# Altium footprint library Connector_PinSocket_1.00mm.PcbLib: 156 footprints (part 8 of 10)
Each footprint in its own frame and in the unit in brackets; x right, y up, seen from the top. Pads: shape width x height; smd on the part's side, far side on the other; paste and mask are expansions set on the pad; w line width, h text height; cw(c..) or ccw(c..) is an arc to the next point about the centre after c.
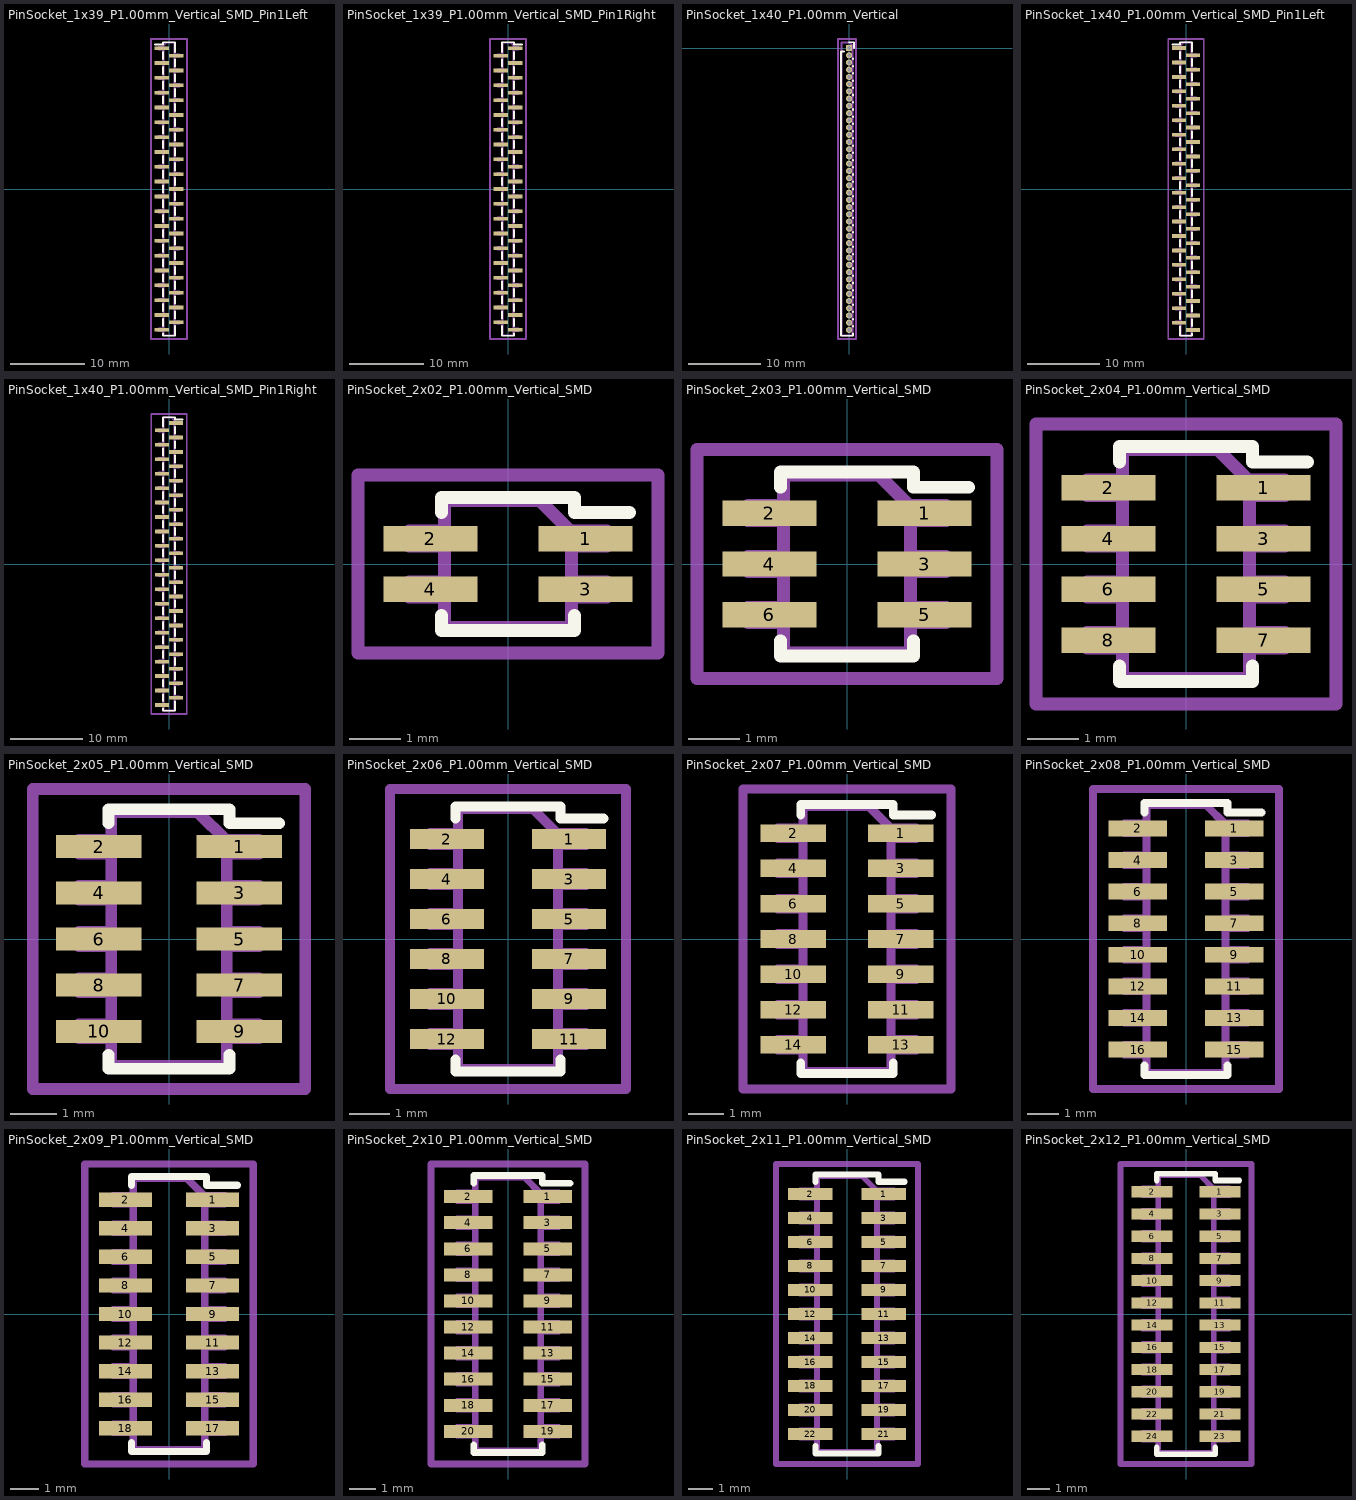
[diagram p7: the footprints below, top view; thin cyan lines are the x and y axes]

## PinSocket_1x39_P1.00mm_Vertical_SMD_Pin1Left [mm]
pads (39):
  rect 1.95x0.5 smd: 1(-0.975,19) 2(0.975,18) 3(-0.975,17) 4(0.975,16) 5(-0.975,15) 6(0.975,14) 7(-0.975,13) 8(0.975,12) 9(-0.975,11) 10(0.975,10) 11(-0.975,9) 12(0.975,8) 13(-0.975,7) 14(0.975,6) 15(-0.975,5) 16(0.975,4) 17(-0.975,3) 18(0.975,2) 19(-0.975,1) 20(0.975,0) 21(-0.975,-1) 22(0.975,-2) 23(-0.975,-3) 24(0.975,-4) 25(-0.975,-5) 26(0.975,-6) 27(-0.975,-7) 28(0.975,-8) 29(-0.975,-9) 30(0.975,-10) 31(-0.975,-11) 32(0.975,-12) 33(-0.975,-13) 34(0.975,-14) 35(-0.975,-15) 36(0.975,-16) 37(-0.975,-17) 38(0.975,-18) 39(-0.975,-19)
F.SilkS:
  lines w0.254: -1.89,19.51 -0.81,19.51 -0.81,19.81 0.81,19.81 0.81,18.51 ; -0.81,-19.51 -0.81,-19.81 0.81,-19.81 0.81,-18.51 ; -0.81,-18.49 -0.81,-17.51 ; -0.81,-16.49 -0.81,-15.51 ; -0.81,-14.49 -0.81,-13.51 ; -0.81,-12.49 -0.81,-11.51 ; -0.81,-10.49 -0.81,-9.51 ; -0.81,-8.49 -0.81,-7.51 ; -0.81,-6.49 -0.81,-5.51 ; -0.81,-4.49 -0.81,-3.51 ; -0.81,-2.49 -0.81,-1.51 ; -0.81,-0.49 -0.81,0.49 ; -0.81,1.51 -0.81,2.49 ; -0.81,3.51 -0.81,4.49 ; -0.81,5.51 -0.81,6.49 ; -0.81,7.51 -0.81,8.49 ; -0.81,9.51 -0.81,10.49 ; -0.81,11.51 -0.81,12.49 ; -0.81,13.51 -0.81,14.49 ; -0.81,15.51 -0.81,16.49 ; -0.81,17.51 -0.81,18.49 ; 0.81,-17.49 0.81,-16.51 ; 0.81,-15.49 0.81,-14.51 ; 0.81,-13.49 0.81,-12.51 ; 0.81,-11.49 0.81,-10.51 ; 0.81,-9.49 0.81,-8.51 ; 0.81,-7.49 0.81,-6.51 ; 0.81,-5.49 0.81,-4.51 ; 0.81,-3.49 0.81,-2.51 ; 0.81,-1.49 0.81,-0.51 ; 0.81,0.51 0.81,1.49 ; 0.81,2.51 0.81,3.49 ; 0.81,4.51 0.81,5.49 ; 0.81,6.51 0.81,7.49 ; 0.81,8.51 0.81,9.49 ; 0.81,10.51 0.81,11.49 ; 0.81,12.51 0.81,13.49 ; 0.81,14.51 0.81,15.49 ; 0.81,16.51 0.81,17.49
Top Assembly:
  lines w0.254: -0.75,-19.15 -1.45,-19.15 -1.45,-18.85 -0.75,-18.85 ; -0.75,-17.15 -1.45,-17.15 -1.45,-16.85 -0.75,-16.85 ; -0.75,-15.15 -1.45,-15.15 -1.45,-14.85 -0.75,-14.85 ; -0.75,-13.15 -1.45,-13.15 -1.45,-12.85 -0.75,-12.85 ; -0.75,-11.15 -1.45,-11.15 -1.45,-10.85 -0.75,-10.85 ; -0.75,-9.15 -1.45,-9.15 -1.45,-8.85 -0.75,-8.85 ; -0.75,-7.15 -1.45,-7.15 -1.45,-6.85 -0.75,-6.85 ; -0.75,-5.15 -1.45,-5.15 -1.45,-4.85 -0.75,-4.85 ; -0.75,-3.15 -1.45,-3.15 -1.45,-2.85 -0.75,-2.85 ; -0.75,-1.15 -1.45,-1.15 -1.45,-0.85 -0.75,-0.85 ; -0.75,0.85 -1.45,0.85 -1.45,1.15 -0.75,1.15 ; -0.75,2.85 -1.45,2.85 -1.45,3.15 -0.75,3.15 ; -0.75,4.85 -1.45,4.85 -1.45,5.15 -0.75,5.15 ; -0.75,6.85 -1.45,6.85 -1.45,7.15 -0.75,7.15 ; -0.75,8.85 -1.45,8.85 -1.45,9.15 -0.75,9.15 ; -0.75,10.85 -1.45,10.85 -1.45,11.15 -0.75,11.15 ; -0.75,12.85 -1.45,12.85 -1.45,13.15 -0.75,13.15 ; -0.75,14.85 -1.45,14.85 -1.45,15.15 -0.75,15.15 ; -0.75,16.85 -1.45,16.85 -1.45,17.15 -0.75,17.15 ; -0.75,18.85 -1.45,18.85 -1.45,19.15 -0.75,19.15 ; 0.75,-18.15 1.45,-18.15 1.45,-17.85 0.75,-17.85 ; 0.75,-16.15 1.45,-16.15 1.45,-15.85 0.75,-15.85 ; 0.75,-14.15 1.45,-14.15 1.45,-13.85 0.75,-13.85 ; 0.75,-12.15 1.45,-12.15 1.45,-11.85 0.75,-11.85 ; 0.75,-10.15 1.45,-10.15 1.45,-9.85 0.75,-9.85 ; 0.75,-8.15 1.45,-8.15 1.45,-7.85 0.75,-7.85 ; 0.75,-6.15 1.45,-6.15 1.45,-5.85 0.75,-5.85 ; 0.75,-4.15 1.45,-4.15 1.45,-3.85 0.75,-3.85 ; 0.75,-2.15 1.45,-2.15 1.45,-1.85 0.75,-1.85 ; 0.75,-0.15 1.45,-0.15 1.45,0.15 0.75,0.15 ; 0.75,1.85 1.45,1.85 1.45,2.15 0.75,2.15 ; 0.75,3.85 1.45,3.85 1.45,4.15 0.75,4.15 ; 0.75,5.85 1.45,5.85 1.45,6.15 0.75,6.15 ; 0.75,7.85 1.45,7.85 1.45,8.15 0.75,8.15 ; 0.75,9.85 1.45,9.85 1.45,10.15 0.75,10.15 ; 0.75,11.85 1.45,11.85 1.45,12.15 0.75,12.15 ; 0.75,13.85 1.45,13.85 1.45,14.15 0.75,14.15 ; 0.75,15.85 1.45,15.85 1.45,16.15 0.75,16.15 ; 0.75,17.85 1.45,17.85 1.45,18.15 0.75,18.15 ; -0.75,-19.75 0.75,-19.75 0.75,19.75 -0.375,19.75 -0.75,19.375 -0.75,-19.75
  text "'.Designator'" at 0.761,-3.647 h0.9
Top Courtyard:
  lines w0.254: -2.45,-20.25 2.45,-20.25 2.45,20.25 -2.45,20.25 -2.45,-20.25
Top Designator:
  text ".Designator" at -7.618,-0.508 h1.52

## PinSocket_1x39_P1.00mm_Vertical_SMD_Pin1Right [mm]
pads (39):
  rect 1.95x0.5 smd: 1(0.975,19) 2(-0.975,18) 3(0.975,17) 4(-0.975,16) 5(0.975,15) 6(-0.975,14) 7(0.975,13) 8(-0.975,12) 9(0.975,11) 10(-0.975,10) 11(0.975,9) 12(-0.975,8) 13(0.975,7) 14(-0.975,6) 15(0.975,5) 16(-0.975,4) 17(0.975,3) 18(-0.975,2) 19(0.975,1) 20(-0.975,0) 21(0.975,-1) 22(-0.975,-2) 23(0.975,-3) 24(-0.975,-4) 25(0.975,-5) 26(-0.975,-6) 27(0.975,-7) 28(-0.975,-8) 29(0.975,-9) 30(-0.975,-10) 31(0.975,-11) 32(-0.975,-12) 33(0.975,-13) 34(-0.975,-14) 35(0.975,-15) 36(-0.975,-16) 37(0.975,-17) 38(-0.975,-18) 39(0.975,-19)
F.SilkS:
  lines w0.254: -0.81,-18.51 -0.81,-19.81 0.81,-19.81 0.81,-19.51 ; -0.81,-17.49 -0.81,-16.51 ; -0.81,-15.49 -0.81,-14.51 ; -0.81,-13.49 -0.81,-12.51 ; -0.81,-11.49 -0.81,-10.51 ; -0.81,-9.49 -0.81,-8.51 ; -0.81,-7.49 -0.81,-6.51 ; -0.81,-5.49 -0.81,-4.51 ; -0.81,-3.49 -0.81,-2.51 ; -0.81,-1.49 -0.81,-0.51 ; -0.81,0.51 -0.81,1.49 ; -0.81,2.51 -0.81,3.49 ; -0.81,4.51 -0.81,5.49 ; -0.81,6.51 -0.81,7.49 ; -0.81,8.51 -0.81,9.49 ; -0.81,10.51 -0.81,11.49 ; -0.81,12.51 -0.81,13.49 ; -0.81,14.51 -0.81,15.49 ; -0.81,16.51 -0.81,17.49 ; -0.81,18.51 -0.81,19.81 0.81,19.81 0.81,19.51 1.89,19.51 ; 0.81,-18.49 0.81,-17.51 ; 0.81,-16.49 0.81,-15.51 ; 0.81,-14.49 0.81,-13.51 ; 0.81,-12.49 0.81,-11.51 ; 0.81,-10.49 0.81,-9.51 ; 0.81,-8.49 0.81,-7.51 ; 0.81,-6.49 0.81,-5.51 ; 0.81,-4.49 0.81,-3.51 ; 0.81,-2.49 0.81,-1.51 ; 0.81,-0.49 0.81,0.49 ; 0.81,1.51 0.81,2.49 ; 0.81,3.51 0.81,4.49 ; 0.81,5.51 0.81,6.49 ; 0.81,7.51 0.81,8.49 ; 0.81,9.51 0.81,10.49 ; 0.81,11.51 0.81,12.49 ; 0.81,13.51 0.81,14.49 ; 0.81,15.51 0.81,16.49 ; 0.81,17.51 0.81,18.49
Top Assembly:
  lines w0.254: -0.75,-18.15 -1.45,-18.15 -1.45,-17.85 -0.75,-17.85 ; -0.75,-16.15 -1.45,-16.15 -1.45,-15.85 -0.75,-15.85 ; -0.75,-14.15 -1.45,-14.15 -1.45,-13.85 -0.75,-13.85 ; -0.75,-12.15 -1.45,-12.15 -1.45,-11.85 -0.75,-11.85 ; -0.75,-10.15 -1.45,-10.15 -1.45,-9.85 -0.75,-9.85 ; -0.75,-8.15 -1.45,-8.15 -1.45,-7.85 -0.75,-7.85 ; -0.75,-6.15 -1.45,-6.15 -1.45,-5.85 -0.75,-5.85 ; -0.75,-4.15 -1.45,-4.15 -1.45,-3.85 -0.75,-3.85 ; -0.75,-2.15 -1.45,-2.15 -1.45,-1.85 -0.75,-1.85 ; -0.75,-0.15 -1.45,-0.15 -1.45,0.15 -0.75,0.15 ; -0.75,1.85 -1.45,1.85 -1.45,2.15 -0.75,2.15 ; -0.75,3.85 -1.45,3.85 -1.45,4.15 -0.75,4.15 ; -0.75,5.85 -1.45,5.85 -1.45,6.15 -0.75,6.15 ; -0.75,7.85 -1.45,7.85 -1.45,8.15 -0.75,8.15 ; -0.75,9.85 -1.45,9.85 -1.45,10.15 -0.75,10.15 ; -0.75,11.85 -1.45,11.85 -1.45,12.15 -0.75,12.15 ; -0.75,13.85 -1.45,13.85 -1.45,14.15 -0.75,14.15 ; -0.75,15.85 -1.45,15.85 -1.45,16.15 -0.75,16.15 ; -0.75,17.85 -1.45,17.85 -1.45,18.15 -0.75,18.15 ; 0.75,-19.15 1.45,-19.15 1.45,-18.85 0.75,-18.85 ; 0.75,-17.15 1.45,-17.15 1.45,-16.85 0.75,-16.85 ; 0.75,-15.15 1.45,-15.15 1.45,-14.85 0.75,-14.85 ; 0.75,-13.15 1.45,-13.15 1.45,-12.85 0.75,-12.85 ; 0.75,-11.15 1.45,-11.15 1.45,-10.85 0.75,-10.85 ; 0.75,-9.15 1.45,-9.15 1.45,-8.85 0.75,-8.85 ; 0.75,-7.15 1.45,-7.15 1.45,-6.85 0.75,-6.85 ; 0.75,-5.15 1.45,-5.15 1.45,-4.85 0.75,-4.85 ; 0.75,-3.15 1.45,-3.15 1.45,-2.85 0.75,-2.85 ; 0.75,-1.15 1.45,-1.15 1.45,-0.85 0.75,-0.85 ; 0.75,0.85 1.45,0.85 1.45,1.15 0.75,1.15 ; 0.75,2.85 1.45,2.85 1.45,3.15 0.75,3.15 ; 0.75,4.85 1.45,4.85 1.45,5.15 0.75,5.15 ; 0.75,6.85 1.45,6.85 1.45,7.15 0.75,7.15 ; 0.75,8.85 1.45,8.85 1.45,9.15 0.75,9.15 ; 0.75,10.85 1.45,10.85 1.45,11.15 0.75,11.15 ; 0.75,12.85 1.45,12.85 1.45,13.15 0.75,13.15 ; 0.75,14.85 1.45,14.85 1.45,15.15 0.75,15.15 ; 0.75,16.85 1.45,16.85 1.45,17.15 0.75,17.15 ; 0.75,18.85 1.45,18.85 1.45,19.15 0.75,19.15 ; -0.75,-19.75 0.75,-19.75 0.75,19.375 0.375,19.75 -0.75,19.75 -0.75,-19.75
  text "'.Designator'" at 0.761,-3.647 h0.9
Top Courtyard:
  lines w0.254: -2.45,-20.25 2.45,-20.25 2.45,20.25 -2.45,20.25 -2.45,-20.25
Top Designator:
  text ".Designator" at -7.618,-0.508 h1.52

## PinSocket_1x40_P1.00mm_Vertical [mm]
pads (40):
  rect 0.85x0.85 hole 0.5: 1(0,0)
  round 0.85 hole 0.5: 2(0,-1) 3(0,-2) 4(0,-3) 5(0,-4) 6(0,-5) 7(0,-6) 8(0,-7) 9(0,-8) 10(0,-9) 11(0,-10) 12(0,-11) 13(0,-12) 14(0,-13) 15(0,-14) 16(0,-15) 17(0,-16) 18(0,-17) 19(0,-18) 20(0,-19) 21(0,-20) 22(0,-21) 23(0,-22) 24(0,-23) 25(0,-24) 26(0,-25) 27(0,-26) 28(0,-27) 29(0,-28) 30(0,-29) 31(0,-30) 32(0,-31) 33(0,-32) 34(0,-33) 35(0,-34) 36(0,-35) 37(0,-36) 38(0,-37) 39(0,-38) 40(0,-39)
F.SilkS:
  lines w0.254: -0.685,-0.5 -1.1,-0.5 -1.1,-39.81 0.52,-39.81 0.52,-39.446 ; 0,0.81 0.685,0.81 0.685,0 ; 0.52,-38.554 0.52,-38.446 ; 0.52,-37.554 0.52,-37.446 ; 0.52,-36.554 0.52,-36.446 ; 0.52,-35.554 0.52,-35.446 ; 0.52,-34.554 0.52,-34.446 ; 0.52,-33.554 0.52,-33.446 ; 0.52,-32.554 0.52,-32.446 ; 0.52,-31.554 0.52,-31.446 ; 0.52,-30.554 0.52,-30.446 ; 0.52,-29.554 0.52,-29.446 ; 0.52,-28.554 0.52,-28.446 ; 0.52,-27.554 0.52,-27.446 ; 0.52,-26.554 0.52,-26.446 ; 0.52,-25.554 0.52,-25.446 ; 0.52,-24.554 0.52,-24.446 ; 0.52,-23.554 0.52,-23.446 ; 0.52,-22.554 0.52,-22.446 ; 0.52,-21.554 0.52,-21.446 ; 0.52,-20.554 0.52,-20.446 ; 0.52,-19.554 0.52,-19.446 ; 0.52,-18.554 0.52,-18.446 ; 0.52,-17.554 0.52,-17.446 ; 0.52,-16.554 0.52,-16.446 ; 0.52,-15.554 0.52,-15.446 ; 0.52,-14.554 0.52,-14.446 ; 0.52,-13.554 0.52,-13.446 ; 0.52,-12.554 0.52,-12.446 ; 0.52,-11.554 0.52,-11.446 ; 0.52,-10.554 0.52,-10.446 ; 0.52,-9.554 0.52,-9.446 ; 0.52,-8.554 0.52,-8.446 ; 0.52,-7.554 0.52,-7.446 ; 0.52,-6.554 0.52,-6.446 ; 0.52,-5.554 0.52,-5.446 ; 0.52,-4.554 0.52,-4.446 ; 0.52,-3.554 0.52,-3.446 ; 0.52,-2.554 0.52,-2.446 ; 0.52,-1.554 0.52,-1.446
Top Assembly:
  lines w0.254: -1.04,-39.75 0.46,-39.75 0.46,0.375 0.085,0.75 -1.04,0.75 -1.04,-39.75
  text "'.Designator'" at 0.471,-23.147 h0.9
Top Courtyard:
  lines w0.254: -1.54,-40.25 0.96,-40.25 0.96,1.25 -1.54,1.25 -1.54,-40.25
Top Designator:
  text ".Designator" at -7.908,-20.008 h1.52

## PinSocket_1x40_P1.00mm_Vertical_SMD_Pin1Left [mm]
pads (40):
  rect 1.95x0.5 smd: 1(-0.975,19.5) 2(0.975,18.5) 3(-0.975,17.5) 4(0.975,16.5) 5(-0.975,15.5) 6(0.975,14.5) 7(-0.975,13.5) 8(0.975,12.5) 9(-0.975,11.5) 10(0.975,10.5) 11(-0.975,9.5) 12(0.975,8.5) 13(-0.975,7.5) 14(0.975,6.5) 15(-0.975,5.5) 16(0.975,4.5) 17(-0.975,3.5) 18(0.975,2.5) 19(-0.975,1.5) 20(0.975,0.5) 21(-0.975,-0.5) 22(0.975,-1.5) 23(-0.975,-2.5) 24(0.975,-3.5) 25(-0.975,-4.5) 26(0.975,-5.5) 27(-0.975,-6.5) 28(0.975,-7.5) 29(-0.975,-8.5) 30(0.975,-9.5) 31(-0.975,-10.5) 32(0.975,-11.5) 33(-0.975,-12.5) 34(0.975,-13.5) 35(-0.975,-14.5) 36(0.975,-15.5) 37(-0.975,-16.5) 38(0.975,-17.5) 39(-0.975,-18.5) 40(0.975,-19.5)
F.SilkS:
  lines w0.254: -1.89,20.01 -0.81,20.01 -0.81,20.31 0.81,20.31 0.81,19.01 ; -0.81,-19.01 -0.81,-20.31 0.81,-20.31 0.81,-20.01 ; -0.81,-17.99 -0.81,-17.01 ; -0.81,-15.99 -0.81,-15.01 ; -0.81,-13.99 -0.81,-13.01 ; -0.81,-11.99 -0.81,-11.01 ; -0.81,-9.99 -0.81,-9.01 ; -0.81,-7.99 -0.81,-7.01 ; -0.81,-5.99 -0.81,-5.01 ; -0.81,-3.99 -0.81,-3.01 ; -0.81,-1.99 -0.81,-1.01 ; -0.81,0.01 -0.81,0.99 ; -0.81,2.01 -0.81,2.99 ; -0.81,4.01 -0.81,4.99 ; -0.81,6.01 -0.81,6.99 ; -0.81,8.01 -0.81,8.99 ; -0.81,10.01 -0.81,10.99 ; -0.81,12.01 -0.81,12.99 ; -0.81,14.01 -0.81,14.99 ; -0.81,16.01 -0.81,16.99 ; -0.81,18.01 -0.81,18.99 ; 0.81,-18.99 0.81,-18.01 ; 0.81,-16.99 0.81,-16.01 ; 0.81,-14.99 0.81,-14.01 ; 0.81,-12.99 0.81,-12.01 ; 0.81,-10.99 0.81,-10.01 ; 0.81,-8.99 0.81,-8.01 ; 0.81,-6.99 0.81,-6.01 ; 0.81,-4.99 0.81,-4.01 ; 0.81,-2.99 0.81,-2.01 ; 0.81,-0.99 0.81,-0.01 ; 0.81,1.01 0.81,1.99 ; 0.81,3.01 0.81,3.99 ; 0.81,5.01 0.81,5.99 ; 0.81,7.01 0.81,7.99 ; 0.81,9.01 0.81,9.99 ; 0.81,11.01 0.81,11.99 ; 0.81,13.01 0.81,13.99 ; 0.81,15.01 0.81,15.99 ; 0.81,17.01 0.81,17.99
Top Assembly:
  lines w0.254: -0.75,-18.65 -1.45,-18.65 -1.45,-18.35 -0.75,-18.35 ; -0.75,-16.65 -1.45,-16.65 -1.45,-16.35 -0.75,-16.35 ; -0.75,-14.65 -1.45,-14.65 -1.45,-14.35 -0.75,-14.35 ; -0.75,-12.65 -1.45,-12.65 -1.45,-12.35 -0.75,-12.35 ; -0.75,-10.65 -1.45,-10.65 -1.45,-10.35 -0.75,-10.35 ; -0.75,-8.65 -1.45,-8.65 -1.45,-8.35 -0.75,-8.35 ; -0.75,-6.65 -1.45,-6.65 -1.45,-6.35 -0.75,-6.35 ; -0.75,-4.65 -1.45,-4.65 -1.45,-4.35 -0.75,-4.35 ; -0.75,-2.65 -1.45,-2.65 -1.45,-2.35 -0.75,-2.35 ; -0.75,-0.65 -1.45,-0.65 -1.45,-0.35 -0.75,-0.35 ; -0.75,1.35 -1.45,1.35 -1.45,1.65 -0.75,1.65 ; -0.75,3.35 -1.45,3.35 -1.45,3.65 -0.75,3.65 ; -0.75,5.35 -1.45,5.35 -1.45,5.65 -0.75,5.65 ; -0.75,7.35 -1.45,7.35 -1.45,7.65 -0.75,7.65 ; -0.75,9.35 -1.45,9.35 -1.45,9.65 -0.75,9.65 ; -0.75,11.35 -1.45,11.35 -1.45,11.65 -0.75,11.65 ; -0.75,13.35 -1.45,13.35 -1.45,13.65 -0.75,13.65 ; -0.75,15.35 -1.45,15.35 -1.45,15.65 -0.75,15.65 ; -0.75,17.35 -1.45,17.35 -1.45,17.65 -0.75,17.65 ; -0.75,19.35 -1.45,19.35 -1.45,19.65 -0.75,19.65 ; 0.75,-19.65 1.45,-19.65 1.45,-19.35 0.75,-19.35 ; 0.75,-17.65 1.45,-17.65 1.45,-17.35 0.75,-17.35 ; 0.75,-15.65 1.45,-15.65 1.45,-15.35 0.75,-15.35 ; 0.75,-13.65 1.45,-13.65 1.45,-13.35 0.75,-13.35 ; 0.75,-11.65 1.45,-11.65 1.45,-11.35 0.75,-11.35 ; 0.75,-9.65 1.45,-9.65 1.45,-9.35 0.75,-9.35 ; 0.75,-7.65 1.45,-7.65 1.45,-7.35 0.75,-7.35 ; 0.75,-5.65 1.45,-5.65 1.45,-5.35 0.75,-5.35 ; 0.75,-3.65 1.45,-3.65 1.45,-3.35 0.75,-3.35 ; 0.75,-1.65 1.45,-1.65 1.45,-1.35 0.75,-1.35 ; 0.75,0.35 1.45,0.35 1.45,0.65 0.75,0.65 ; 0.75,2.35 1.45,2.35 1.45,2.65 0.75,2.65 ; 0.75,4.35 1.45,4.35 1.45,4.65 0.75,4.65 ; 0.75,6.35 1.45,6.35 1.45,6.65 0.75,6.65 ; 0.75,8.35 1.45,8.35 1.45,8.65 0.75,8.65 ; 0.75,10.35 1.45,10.35 1.45,10.65 0.75,10.65 ; 0.75,12.35 1.45,12.35 1.45,12.65 0.75,12.65 ; 0.75,14.35 1.45,14.35 1.45,14.65 0.75,14.65 ; 0.75,16.35 1.45,16.35 1.45,16.65 0.75,16.65 ; 0.75,18.35 1.45,18.35 1.45,18.65 0.75,18.65 ; -0.75,-20.25 0.75,-20.25 0.75,20.25 -0.375,20.25 -0.75,19.875 -0.75,-20.25
  text "'.Designator'" at 0.761,-3.647 h0.9
Top Courtyard:
  lines w0.254: -2.45,-20.75 2.45,-20.75 2.45,20.75 -2.45,20.75 -2.45,-20.75
Top Designator:
  text ".Designator" at -7.618,-0.508 h1.52

## PinSocket_1x40_P1.00mm_Vertical_SMD_Pin1Right [mm]
pads (40):
  rect 1.95x0.5 smd: 1(0.975,19.5) 2(-0.975,18.5) 3(0.975,17.5) 4(-0.975,16.5) 5(0.975,15.5) 6(-0.975,14.5) 7(0.975,13.5) 8(-0.975,12.5) 9(0.975,11.5) 10(-0.975,10.5) 11(0.975,9.5) 12(-0.975,8.5) 13(0.975,7.5) 14(-0.975,6.5) 15(0.975,5.5) 16(-0.975,4.5) 17(0.975,3.5) 18(-0.975,2.5) 19(0.975,1.5) 20(-0.975,0.5) 21(0.975,-0.5) 22(-0.975,-1.5) 23(0.975,-2.5) 24(-0.975,-3.5) 25(0.975,-4.5) 26(-0.975,-5.5) 27(0.975,-6.5) 28(-0.975,-7.5) 29(0.975,-8.5) 30(-0.975,-9.5) 31(0.975,-10.5) 32(-0.975,-11.5) 33(0.975,-12.5) 34(-0.975,-13.5) 35(0.975,-14.5) 36(-0.975,-15.5) 37(0.975,-16.5) 38(-0.975,-17.5) 39(0.975,-18.5) 40(-0.975,-19.5)
F.SilkS:
  lines w0.254: -0.81,-20.01 -0.81,-20.31 0.81,-20.31 0.81,-19.01 ; -0.81,-18.99 -0.81,-18.01 ; -0.81,-16.99 -0.81,-16.01 ; -0.81,-14.99 -0.81,-14.01 ; -0.81,-12.99 -0.81,-12.01 ; -0.81,-10.99 -0.81,-10.01 ; -0.81,-8.99 -0.81,-8.01 ; -0.81,-6.99 -0.81,-6.01 ; -0.81,-4.99 -0.81,-4.01 ; -0.81,-2.99 -0.81,-2.01 ; -0.81,-0.99 -0.81,-0.01 ; -0.81,1.01 -0.81,1.99 ; -0.81,3.01 -0.81,3.99 ; -0.81,5.01 -0.81,5.99 ; -0.81,7.01 -0.81,7.99 ; -0.81,9.01 -0.81,9.99 ; -0.81,11.01 -0.81,11.99 ; -0.81,13.01 -0.81,13.99 ; -0.81,15.01 -0.81,15.99 ; -0.81,17.01 -0.81,17.99 ; -0.81,19.01 -0.81,20.31 0.81,20.31 0.81,20.01 1.89,20.01 ; 0.81,-17.99 0.81,-17.01 ; 0.81,-15.99 0.81,-15.01 ; 0.81,-13.99 0.81,-13.01 ; 0.81,-11.99 0.81,-11.01 ; 0.81,-9.99 0.81,-9.01 ; 0.81,-7.99 0.81,-7.01 ; 0.81,-5.99 0.81,-5.01 ; 0.81,-3.99 0.81,-3.01 ; 0.81,-1.99 0.81,-1.01 ; 0.81,0.01 0.81,0.99 ; 0.81,2.01 0.81,2.99 ; 0.81,4.01 0.81,4.99 ; 0.81,6.01 0.81,6.99 ; 0.81,8.01 0.81,8.99 ; 0.81,10.01 0.81,10.99 ; 0.81,12.01 0.81,12.99 ; 0.81,14.01 0.81,14.99 ; 0.81,16.01 0.81,16.99 ; 0.81,18.01 0.81,18.99
Top Assembly:
  lines w0.254: -0.75,-19.65 -1.45,-19.65 -1.45,-19.35 -0.75,-19.35 ; -0.75,-17.65 -1.45,-17.65 -1.45,-17.35 -0.75,-17.35 ; -0.75,-15.65 -1.45,-15.65 -1.45,-15.35 -0.75,-15.35 ; -0.75,-13.65 -1.45,-13.65 -1.45,-13.35 -0.75,-13.35 ; -0.75,-11.65 -1.45,-11.65 -1.45,-11.35 -0.75,-11.35 ; -0.75,-9.65 -1.45,-9.65 -1.45,-9.35 -0.75,-9.35 ; -0.75,-7.65 -1.45,-7.65 -1.45,-7.35 -0.75,-7.35 ; -0.75,-5.65 -1.45,-5.65 -1.45,-5.35 -0.75,-5.35 ; -0.75,-3.65 -1.45,-3.65 -1.45,-3.35 -0.75,-3.35 ; -0.75,-1.65 -1.45,-1.65 -1.45,-1.35 -0.75,-1.35 ; -0.75,0.35 -1.45,0.35 -1.45,0.65 -0.75,0.65 ; -0.75,2.35 -1.45,2.35 -1.45,2.65 -0.75,2.65 ; -0.75,4.35 -1.45,4.35 -1.45,4.65 -0.75,4.65 ; -0.75,6.35 -1.45,6.35 -1.45,6.65 -0.75,6.65 ; -0.75,8.35 -1.45,8.35 -1.45,8.65 -0.75,8.65 ; -0.75,10.35 -1.45,10.35 -1.45,10.65 -0.75,10.65 ; -0.75,12.35 -1.45,12.35 -1.45,12.65 -0.75,12.65 ; -0.75,14.35 -1.45,14.35 -1.45,14.65 -0.75,14.65 ; -0.75,16.35 -1.45,16.35 -1.45,16.65 -0.75,16.65 ; -0.75,18.35 -1.45,18.35 -1.45,18.65 -0.75,18.65 ; 0.75,-18.65 1.45,-18.65 1.45,-18.35 0.75,-18.35 ; 0.75,-16.65 1.45,-16.65 1.45,-16.35 0.75,-16.35 ; 0.75,-14.65 1.45,-14.65 1.45,-14.35 0.75,-14.35 ; 0.75,-12.65 1.45,-12.65 1.45,-12.35 0.75,-12.35 ; 0.75,-10.65 1.45,-10.65 1.45,-10.35 0.75,-10.35 ; 0.75,-8.65 1.45,-8.65 1.45,-8.35 0.75,-8.35 ; 0.75,-6.65 1.45,-6.65 1.45,-6.35 0.75,-6.35 ; 0.75,-4.65 1.45,-4.65 1.45,-4.35 0.75,-4.35 ; 0.75,-2.65 1.45,-2.65 1.45,-2.35 0.75,-2.35 ; 0.75,-0.65 1.45,-0.65 1.45,-0.35 0.75,-0.35 ; 0.75,1.35 1.45,1.35 1.45,1.65 0.75,1.65 ; 0.75,3.35 1.45,3.35 1.45,3.65 0.75,3.65 ; 0.75,5.35 1.45,5.35 1.45,5.65 0.75,5.65 ; 0.75,7.35 1.45,7.35 1.45,7.65 0.75,7.65 ; 0.75,9.35 1.45,9.35 1.45,9.65 0.75,9.65 ; 0.75,11.35 1.45,11.35 1.45,11.65 0.75,11.65 ; 0.75,13.35 1.45,13.35 1.45,13.65 0.75,13.65 ; 0.75,15.35 1.45,15.35 1.45,15.65 0.75,15.65 ; 0.75,17.35 1.45,17.35 1.45,17.65 0.75,17.65 ; 0.75,19.35 1.45,19.35 1.45,19.65 0.75,19.65 ; -0.75,-20.25 0.75,-20.25 0.75,19.875 0.375,20.25 -0.75,20.25 -0.75,-20.25
  text "'.Designator'" at 0.761,-3.647 h0.9
Top Courtyard:
  lines w0.254: -2.45,-20.75 2.45,-20.75 2.45,20.75 -2.45,20.75 -2.45,-20.75
Top Designator:
  text ".Designator" at -7.618,-0.508 h1.52

## PinSocket_2x02_P1.00mm_Vertical_SMD [mm]
pads (4):
  rect 1.85x0.5 smd: 1(1.525,0.5) 2(-1.525,0.5) 3(1.525,-0.5) 4(-1.525,-0.5)
F.SilkS:
  lines w0.254: -1.31,-1.01 -1.31,-1.31 1.31,-1.31 1.31,-1.01 ; -1.31,1.01 -1.31,1.31 1.31,1.31 1.31,1.01 2.39,1.01
Top Assembly:
  lines w0.254: -1.25,-0.65 -1.95,-0.65 -1.95,-0.35 -1.25,-0.35 ; -1.25,0.35 -1.95,0.35 -1.95,0.65 -1.25,0.65 ; 1.25,-0.65 1.95,-0.65 1.95,-0.35 1.25,-0.35 ; 1.25,0.35 1.95,0.35 1.95,0.65 1.25,0.65 ; -1.25,-1.25 1.25,-1.25 1.25,0.625 0.625,1.25 -1.25,1.25 -1.25,-1.25
  text "'.Designator'" at 0.84,-4.047 h1
Top Courtyard:
  lines w0.254: -2.95,-1.75 2.95,-1.75 2.95,1.75 -2.95,1.75 -2.95,-1.75
Top Designator:
  text ".Designator" at -7.618,-0.658 h1.52

## PinSocket_2x03_P1.00mm_Vertical_SMD [mm]
pads (6):
  rect 1.85x0.5 smd: 1(1.525,1) 2(-1.525,1) 3(1.525,0) 4(-1.525,0) 5(1.525,-1) 6(-1.525,-1)
F.SilkS:
  lines w0.254: -1.31,-1.51 -1.31,-1.81 1.31,-1.81 1.31,-1.51 ; -1.31,1.51 -1.31,1.81 1.31,1.81 1.31,1.51 2.39,1.51
Top Assembly:
  lines w0.254: -1.25,-1.15 -1.95,-1.15 -1.95,-0.85 -1.25,-0.85 ; -1.25,-0.15 -1.95,-0.15 -1.95,0.15 -1.25,0.15 ; -1.25,0.85 -1.95,0.85 -1.95,1.15 -1.25,1.15 ; 1.25,-1.15 1.95,-1.15 1.95,-0.85 1.25,-0.85 ; 1.25,-0.15 1.95,-0.15 1.95,0.15 1.25,0.15 ; 1.25,0.85 1.95,0.85 1.95,1.15 1.25,1.15 ; -1.25,-1.75 1.25,-1.75 1.25,1.125 0.625,1.75 -1.25,1.75 -1.25,-1.75
  text "'.Designator'" at 0.84,-4.047 h1
Top Courtyard:
  lines w0.254: -2.95,-2.25 2.95,-2.25 2.95,2.25 -2.95,2.25 -2.95,-2.25
Top Designator:
  text ".Designator" at -7.618,-0.658 h1.52

## PinSocket_2x04_P1.00mm_Vertical_SMD [mm]
pads (8):
  rect 1.85x0.5 smd: 1(1.525,1.5) 2(-1.525,1.5) 3(1.525,0.5) 4(-1.525,0.5) 5(1.525,-0.5) 6(-1.525,-0.5) 7(1.525,-1.5) 8(-1.525,-1.5)
F.SilkS:
  lines w0.254: -1.31,-2.01 -1.31,-2.31 1.31,-2.31 1.31,-2.01 ; -1.31,2.01 -1.31,2.31 1.31,2.31 1.31,2.01 2.39,2.01
Top Assembly:
  lines w0.254: -1.25,-1.65 -1.95,-1.65 -1.95,-1.35 -1.25,-1.35 ; -1.25,-0.65 -1.95,-0.65 -1.95,-0.35 -1.25,-0.35 ; -1.25,0.35 -1.95,0.35 -1.95,0.65 -1.25,0.65 ; -1.25,1.35 -1.95,1.35 -1.95,1.65 -1.25,1.65 ; 1.25,-1.65 1.95,-1.65 1.95,-1.35 1.25,-1.35 ; 1.25,-0.65 1.95,-0.65 1.95,-0.35 1.25,-0.35 ; 1.25,0.35 1.95,0.35 1.95,0.65 1.25,0.65 ; 1.25,1.35 1.95,1.35 1.95,1.65 1.25,1.65 ; -1.25,-2.25 1.25,-2.25 1.25,1.625 0.625,2.25 -1.25,2.25 -1.25,-2.25
  text "'.Designator'" at 0.84,-4.047 h1
Top Courtyard:
  lines w0.254: -2.95,-2.75 2.95,-2.75 2.95,2.75 -2.95,2.75 -2.95,-2.75
Top Designator:
  text ".Designator" at -7.618,-0.658 h1.52

## PinSocket_2x05_P1.00mm_Vertical_SMD [mm]
pads (10):
  rect 1.85x0.5 smd: 1(1.525,2) 2(-1.525,2) 3(1.525,1) 4(-1.525,1) 5(1.525,0) 6(-1.525,0) 7(1.525,-1) 8(-1.525,-1) 9(1.525,-2) 10(-1.525,-2)
F.SilkS:
  lines w0.254: -1.31,-2.51 -1.31,-2.81 1.31,-2.81 1.31,-2.51 ; -1.31,2.51 -1.31,2.81 1.31,2.81 1.31,2.51 2.39,2.51
Top Assembly:
  lines w0.254: -1.25,-2.15 -1.95,-2.15 -1.95,-1.85 -1.25,-1.85 ; -1.25,-1.15 -1.95,-1.15 -1.95,-0.85 -1.25,-0.85 ; -1.25,-0.15 -1.95,-0.15 -1.95,0.15 -1.25,0.15 ; -1.25,0.85 -1.95,0.85 -1.95,1.15 -1.25,1.15 ; -1.25,1.85 -1.95,1.85 -1.95,2.15 -1.25,2.15 ; 1.25,-2.15 1.95,-2.15 1.95,-1.85 1.25,-1.85 ; 1.25,-1.15 1.95,-1.15 1.95,-0.85 1.25,-0.85 ; 1.25,-0.15 1.95,-0.15 1.95,0.15 1.25,0.15 ; 1.25,0.85 1.95,0.85 1.95,1.15 1.25,1.15 ; 1.25,1.85 1.95,1.85 1.95,2.15 1.25,2.15 ; -1.25,-2.75 1.25,-2.75 1.25,2.125 0.625,2.75 -1.25,2.75 -1.25,-2.75
  text "'.Designator'" at 0.84,-4.047 h1
Top Courtyard:
  lines w0.254: -2.95,-3.25 2.95,-3.25 2.95,3.25 -2.95,3.25 -2.95,-3.25
Top Designator:
  text ".Designator" at -7.618,-0.658 h1.52

## PinSocket_2x06_P1.00mm_Vertical_SMD [mm]
pads (12):
  rect 1.85x0.5 smd: 1(1.525,2.5) 2(-1.525,2.5) 3(1.525,1.5) 4(-1.525,1.5) 5(1.525,0.5) 6(-1.525,0.5) 7(1.525,-0.5) 8(-1.525,-0.5) 9(1.525,-1.5) 10(-1.525,-1.5) 11(1.525,-2.5) 12(-1.525,-2.5)
F.SilkS:
  lines w0.254: -1.31,-3.01 -1.31,-3.31 1.31,-3.31 1.31,-3.01 ; -1.31,3.01 -1.31,3.31 1.31,3.31 1.31,3.01 2.39,3.01
Top Assembly:
  lines w0.254: -1.25,-2.65 -1.95,-2.65 -1.95,-2.35 -1.25,-2.35 ; -1.25,-1.65 -1.95,-1.65 -1.95,-1.35 -1.25,-1.35 ; -1.25,-0.65 -1.95,-0.65 -1.95,-0.35 -1.25,-0.35 ; -1.25,0.35 -1.95,0.35 -1.95,0.65 -1.25,0.65 ; -1.25,1.35 -1.95,1.35 -1.95,1.65 -1.25,1.65 ; -1.25,2.35 -1.95,2.35 -1.95,2.65 -1.25,2.65 ; 1.25,-2.65 1.95,-2.65 1.95,-2.35 1.25,-2.35 ; 1.25,-1.65 1.95,-1.65 1.95,-1.35 1.25,-1.35 ; 1.25,-0.65 1.95,-0.65 1.95,-0.35 1.25,-0.35 ; 1.25,0.35 1.95,0.35 1.95,0.65 1.25,0.65 ; 1.25,1.35 1.95,1.35 1.95,1.65 1.25,1.65 ; 1.25,2.35 1.95,2.35 1.95,2.65 1.25,2.65 ; -1.25,-3.25 1.25,-3.25 1.25,2.625 0.625,3.25 -1.25,3.25 -1.25,-3.25
  text "'.Designator'" at 0.84,-4.047 h1
Top Courtyard:
  lines w0.254: -2.95,-3.75 2.95,-3.75 2.95,3.75 -2.95,3.75 -2.95,-3.75
Top Designator:
  text ".Designator" at -7.618,-0.658 h1.52

## PinSocket_2x07_P1.00mm_Vertical_SMD [mm]
pads (14):
  rect 1.85x0.5 smd: 1(1.525,3) 2(-1.525,3) 3(1.525,2) 4(-1.525,2) 5(1.525,1) 6(-1.525,1) 7(1.525,0) 8(-1.525,0) 9(1.525,-1) 10(-1.525,-1) 11(1.525,-2) 12(-1.525,-2) 13(1.525,-3) 14(-1.525,-3)
F.SilkS:
  lines w0.254: -1.31,-3.51 -1.31,-3.81 1.31,-3.81 1.31,-3.51 ; -1.31,3.51 -1.31,3.81 1.31,3.81 1.31,3.51 2.39,3.51
Top Assembly:
  lines w0.254: -1.25,-3.15 -1.95,-3.15 -1.95,-2.85 -1.25,-2.85 ; -1.25,-2.15 -1.95,-2.15 -1.95,-1.85 -1.25,-1.85 ; -1.25,-1.15 -1.95,-1.15 -1.95,-0.85 -1.25,-0.85 ; -1.25,-0.15 -1.95,-0.15 -1.95,0.15 -1.25,0.15 ; -1.25,0.85 -1.95,0.85 -1.95,1.15 -1.25,1.15 ; -1.25,1.85 -1.95,1.85 -1.95,2.15 -1.25,2.15 ; -1.25,2.85 -1.95,2.85 -1.95,3.15 -1.25,3.15 ; 1.25,-3.15 1.95,-3.15 1.95,-2.85 1.25,-2.85 ; 1.25,-2.15 1.95,-2.15 1.95,-1.85 1.25,-1.85 ; 1.25,-1.15 1.95,-1.15 1.95,-0.85 1.25,-0.85 ; 1.25,-0.15 1.95,-0.15 1.95,0.15 1.25,0.15 ; 1.25,0.85 1.95,0.85 1.95,1.15 1.25,1.15 ; 1.25,1.85 1.95,1.85 1.95,2.15 1.25,2.15 ; 1.25,2.85 1.95,2.85 1.95,3.15 1.25,3.15 ; -1.25,-3.75 1.25,-3.75 1.25,3.125 0.625,3.75 -1.25,3.75 -1.25,-3.75
  text "'.Designator'" at 0.84,-4.047 h1
Top Courtyard:
  lines w0.254: -2.95,-4.25 2.95,-4.25 2.95,4.25 -2.95,4.25 -2.95,-4.25
Top Designator:
  text ".Designator" at -7.618,-0.508 h1.52

## PinSocket_2x08_P1.00mm_Vertical_SMD [mm]
pads (16):
  rect 1.85x0.5 smd: 1(1.525,3.5) 2(-1.525,3.5) 3(1.525,2.5) 4(-1.525,2.5) 5(1.525,1.5) 6(-1.525,1.5) 7(1.525,0.5) 8(-1.525,0.5) 9(1.525,-0.5) 10(-1.525,-0.5) 11(1.525,-1.5) 12(-1.525,-1.5) 13(1.525,-2.5) 14(-1.525,-2.5) 15(1.525,-3.5) 16(-1.525,-3.5)
F.SilkS:
  lines w0.254: -1.31,-4.01 -1.31,-4.31 1.31,-4.31 1.31,-4.01 ; -1.31,4.01 -1.31,4.31 1.31,4.31 1.31,4.01 2.39,4.01
Top Assembly:
  lines w0.254: -1.25,-3.65 -1.95,-3.65 -1.95,-3.35 -1.25,-3.35 ; -1.25,-2.65 -1.95,-2.65 -1.95,-2.35 -1.25,-2.35 ; -1.25,-1.65 -1.95,-1.65 -1.95,-1.35 -1.25,-1.35 ; -1.25,-0.65 -1.95,-0.65 -1.95,-0.35 -1.25,-0.35 ; -1.25,0.35 -1.95,0.35 -1.95,0.65 -1.25,0.65 ; -1.25,1.35 -1.95,1.35 -1.95,1.65 -1.25,1.65 ; -1.25,2.35 -1.95,2.35 -1.95,2.65 -1.25,2.65 ; -1.25,3.35 -1.95,3.35 -1.95,3.65 -1.25,3.65 ; 1.25,-3.65 1.95,-3.65 1.95,-3.35 1.25,-3.35 ; 1.25,-2.65 1.95,-2.65 1.95,-2.35 1.25,-2.35 ; 1.25,-1.65 1.95,-1.65 1.95,-1.35 1.25,-1.35 ; 1.25,-0.65 1.95,-0.65 1.95,-0.35 1.25,-0.35 ; 1.25,0.35 1.95,0.35 1.95,0.65 1.25,0.65 ; 1.25,1.35 1.95,1.35 1.95,1.65 1.25,1.65 ; 1.25,2.35 1.95,2.35 1.95,2.65 1.25,2.65 ; 1.25,3.35 1.95,3.35 1.95,3.65 1.25,3.65 ; -1.25,-4.25 1.25,-4.25 1.25,3.625 0.625,4.25 -1.25,4.25 -1.25,-4.25
  text "'.Designator'" at 0.84,-4.047 h1
Top Courtyard:
  lines w0.254: -2.95,-4.75 2.95,-4.75 2.95,4.75 -2.95,4.75 -2.95,-4.75
Top Designator:
  text ".Designator" at -7.618,-0.508 h1.52

## PinSocket_2x09_P1.00mm_Vertical_SMD [mm]
pads (18):
  rect 1.85x0.5 smd: 1(1.525,4) 2(-1.525,4) 3(1.525,3) 4(-1.525,3) 5(1.525,2) 6(-1.525,2) 7(1.525,1) 8(-1.525,1) 9(1.525,0) 10(-1.525,0) 11(1.525,-1) 12(-1.525,-1) 13(1.525,-2) 14(-1.525,-2) 15(1.525,-3) 16(-1.525,-3) 17(1.525,-4) 18(-1.525,-4)
F.SilkS:
  lines w0.254: -1.31,-4.51 -1.31,-4.81 1.31,-4.81 1.31,-4.51 ; -1.31,4.51 -1.31,4.81 1.31,4.81 1.31,4.51 2.39,4.51
Top Assembly:
  lines w0.254: -1.25,-4.15 -1.95,-4.15 -1.95,-3.85 -1.25,-3.85 ; -1.25,-3.15 -1.95,-3.15 -1.95,-2.85 -1.25,-2.85 ; -1.25,-2.15 -1.95,-2.15 -1.95,-1.85 -1.25,-1.85 ; -1.25,-1.15 -1.95,-1.15 -1.95,-0.85 -1.25,-0.85 ; -1.25,-0.15 -1.95,-0.15 -1.95,0.15 -1.25,0.15 ; -1.25,0.85 -1.95,0.85 -1.95,1.15 -1.25,1.15 ; -1.25,1.85 -1.95,1.85 -1.95,2.15 -1.25,2.15 ; -1.25,2.85 -1.95,2.85 -1.95,3.15 -1.25,3.15 ; -1.25,3.85 -1.95,3.85 -1.95,4.15 -1.25,4.15 ; 1.25,-4.15 1.95,-4.15 1.95,-3.85 1.25,-3.85 ; 1.25,-3.15 1.95,-3.15 1.95,-2.85 1.25,-2.85 ; 1.25,-2.15 1.95,-2.15 1.95,-1.85 1.25,-1.85 ; 1.25,-1.15 1.95,-1.15 1.95,-0.85 1.25,-0.85 ; 1.25,-0.15 1.95,-0.15 1.95,0.15 1.25,0.15 ; 1.25,0.85 1.95,0.85 1.95,1.15 1.25,1.15 ; 1.25,1.85 1.95,1.85 1.95,2.15 1.25,2.15 ; 1.25,2.85 1.95,2.85 1.95,3.15 1.25,3.15 ; 1.25,3.85 1.95,3.85 1.95,4.15 1.25,4.15 ; -1.25,-4.75 1.25,-4.75 1.25,4.125 0.625,4.75 -1.25,4.75 -1.25,-4.75
  text "'.Designator'" at 0.84,-4.047 h1
Top Courtyard:
  lines w0.254: -2.95,-5.25 2.95,-5.25 2.95,5.25 -2.95,5.25 -2.95,-5.25
Top Designator:
  text ".Designator" at -7.618,-0.508 h1.52

## PinSocket_2x10_P1.00mm_Vertical_SMD [mm]
pads (20):
  rect 1.85x0.5 smd: 1(1.525,4.5) 2(-1.525,4.5) 3(1.525,3.5) 4(-1.525,3.5) 5(1.525,2.5) 6(-1.525,2.5) 7(1.525,1.5) 8(-1.525,1.5) 9(1.525,0.5) 10(-1.525,0.5) 11(1.525,-0.5) 12(-1.525,-0.5) 13(1.525,-1.5) 14(-1.525,-1.5) 15(1.525,-2.5) 16(-1.525,-2.5) 17(1.525,-3.5) 18(-1.525,-3.5) 19(1.525,-4.5) 20(-1.525,-4.5)
F.SilkS:
  lines w0.254: -1.31,-5.01 -1.31,-5.31 1.31,-5.31 1.31,-5.01 ; -1.31,5.01 -1.31,5.31 1.31,5.31 1.31,5.01 2.39,5.01
Top Assembly:
  lines w0.254: -1.25,-4.65 -1.95,-4.65 -1.95,-4.35 -1.25,-4.35 ; -1.25,-3.65 -1.95,-3.65 -1.95,-3.35 -1.25,-3.35 ; -1.25,-2.65 -1.95,-2.65 -1.95,-2.35 -1.25,-2.35 ; -1.25,-1.65 -1.95,-1.65 -1.95,-1.35 -1.25,-1.35 ; -1.25,-0.65 -1.95,-0.65 -1.95,-0.35 -1.25,-0.35 ; -1.25,0.35 -1.95,0.35 -1.95,0.65 -1.25,0.65 ; -1.25,1.35 -1.95,1.35 -1.95,1.65 -1.25,1.65 ; -1.25,2.35 -1.95,2.35 -1.95,2.65 -1.25,2.65 ; -1.25,3.35 -1.95,3.35 -1.95,3.65 -1.25,3.65 ; -1.25,4.35 -1.95,4.35 -1.95,4.65 -1.25,4.65 ; 1.25,-4.65 1.95,-4.65 1.95,-4.35 1.25,-4.35 ; 1.25,-3.65 1.95,-3.65 1.95,-3.35 1.25,-3.35 ; 1.25,-2.65 1.95,-2.65 1.95,-2.35 1.25,-2.35 ; 1.25,-1.65 1.95,-1.65 1.95,-1.35 1.25,-1.35 ; 1.25,-0.65 1.95,-0.65 1.95,-0.35 1.25,-0.35 ; 1.25,0.35 1.95,0.35 1.95,0.65 1.25,0.65 ; 1.25,1.35 1.95,1.35 1.95,1.65 1.25,1.65 ; 1.25,2.35 1.95,2.35 1.95,2.65 1.25,2.65 ; 1.25,3.35 1.95,3.35 1.95,3.65 1.25,3.65 ; 1.25,4.35 1.95,4.35 1.95,4.65 1.25,4.65 ; -1.25,-5.25 1.25,-5.25 1.25,4.625 0.625,5.25 -1.25,5.25 -1.25,-5.25
  text "'.Designator'" at 0.84,-4.047 h1
Top Courtyard:
  lines w0.254: -2.95,-5.75 2.95,-5.75 2.95,5.75 -2.95,5.75 -2.95,-5.75
Top Designator:
  text ".Designator" at -7.618,-0.508 h1.52

## PinSocket_2x11_P1.00mm_Vertical_SMD [mm]
pads (22):
  rect 1.85x0.5 smd: 1(1.525,5) 2(-1.525,5) 3(1.525,4) 4(-1.525,4) 5(1.525,3) 6(-1.525,3) 7(1.525,2) 8(-1.525,2) 9(1.525,1) 10(-1.525,1) 11(1.525,0) 12(-1.525,0) 13(1.525,-1) 14(-1.525,-1) 15(1.525,-2) 16(-1.525,-2) 17(1.525,-3) 18(-1.525,-3) 19(1.525,-4) 20(-1.525,-4) 21(1.525,-5) 22(-1.525,-5)
F.SilkS:
  lines w0.254: -1.31,-5.51 -1.31,-5.81 1.31,-5.81 1.31,-5.51 ; -1.31,5.51 -1.31,5.81 1.31,5.81 1.31,5.51 2.39,5.51
Top Assembly:
  lines w0.254: -1.25,-5.15 -1.95,-5.15 -1.95,-4.85 -1.25,-4.85 ; -1.25,-4.15 -1.95,-4.15 -1.95,-3.85 -1.25,-3.85 ; -1.25,-3.15 -1.95,-3.15 -1.95,-2.85 -1.25,-2.85 ; -1.25,-2.15 -1.95,-2.15 -1.95,-1.85 -1.25,-1.85 ; -1.25,-1.15 -1.95,-1.15 -1.95,-0.85 -1.25,-0.85 ; -1.25,-0.15 -1.95,-0.15 -1.95,0.15 -1.25,0.15 ; -1.25,0.85 -1.95,0.85 -1.95,1.15 -1.25,1.15 ; -1.25,1.85 -1.95,1.85 -1.95,2.15 -1.25,2.15 ; -1.25,2.85 -1.95,2.85 -1.95,3.15 -1.25,3.15 ; -1.25,3.85 -1.95,3.85 -1.95,4.15 -1.25,4.15 ; -1.25,4.85 -1.95,4.85 -1.95,5.15 -1.25,5.15 ; 1.25,-5.15 1.95,-5.15 1.95,-4.85 1.25,-4.85 ; 1.25,-4.15 1.95,-4.15 1.95,-3.85 1.25,-3.85 ; 1.25,-3.15 1.95,-3.15 1.95,-2.85 1.25,-2.85 ; 1.25,-2.15 1.95,-2.15 1.95,-1.85 1.25,-1.85 ; 1.25,-1.15 1.95,-1.15 1.95,-0.85 1.25,-0.85 ; 1.25,-0.15 1.95,-0.15 1.95,0.15 1.25,0.15 ; 1.25,0.85 1.95,0.85 1.95,1.15 1.25,1.15 ; 1.25,1.85 1.95,1.85 1.95,2.15 1.25,2.15 ; 1.25,2.85 1.95,2.85 1.95,3.15 1.25,3.15 ; 1.25,3.85 1.95,3.85 1.95,4.15 1.25,4.15 ; 1.25,4.85 1.95,4.85 1.95,5.15 1.25,5.15 ; -1.25,-5.75 1.25,-5.75 1.25,5.125 0.625,5.75 -1.25,5.75 -1.25,-5.75
  text "'.Designator'" at 0.84,-4.047 h1
Top Courtyard:
  lines w0.254: -2.95,-6.25 2.95,-6.25 2.95,6.25 -2.95,6.25 -2.95,-6.25
Top Designator:
  text ".Designator" at -7.618,-0.508 h1.52

## PinSocket_2x12_P1.00mm_Vertical_SMD [mm]
pads (24):
  rect 1.85x0.5 smd: 1(1.525,5.5) 2(-1.525,5.5) 3(1.525,4.5) 4(-1.525,4.5) 5(1.525,3.5) 6(-1.525,3.5) 7(1.525,2.5) 8(-1.525,2.5) 9(1.525,1.5) 10(-1.525,1.5) 11(1.525,0.5) 12(-1.525,0.5) 13(1.525,-0.5) 14(-1.525,-0.5) 15(1.525,-1.5) 16(-1.525,-1.5) 17(1.525,-2.5) 18(-1.525,-2.5) 19(1.525,-3.5) 20(-1.525,-3.5) 21(1.525,-4.5) 22(-1.525,-4.5) 23(1.525,-5.5) 24(-1.525,-5.5)
F.SilkS:
  lines w0.254: -1.31,-6.01 -1.31,-6.31 1.31,-6.31 1.31,-6.01 ; -1.31,6.01 -1.31,6.31 1.31,6.31 1.31,6.01 2.39,6.01
Top Assembly:
  lines w0.254: -1.25,-5.65 -1.95,-5.65 -1.95,-5.35 -1.25,-5.35 ; -1.25,-4.65 -1.95,-4.65 -1.95,-4.35 -1.25,-4.35 ; -1.25,-3.65 -1.95,-3.65 -1.95,-3.35 -1.25,-3.35 ; -1.25,-2.65 -1.95,-2.65 -1.95,-2.35 -1.25,-2.35 ; -1.25,-1.65 -1.95,-1.65 -1.95,-1.35 -1.25,-1.35 ; -1.25,-0.65 -1.95,-0.65 -1.95,-0.35 -1.25,-0.35 ; -1.25,0.35 -1.95,0.35 -1.95,0.65 -1.25,0.65 ; -1.25,1.35 -1.95,1.35 -1.95,1.65 -1.25,1.65 ; -1.25,2.35 -1.95,2.35 -1.95,2.65 -1.25,2.65 ; -1.25,3.35 -1.95,3.35 -1.95,3.65 -1.25,3.65 ; -1.25,4.35 -1.95,4.35 -1.95,4.65 -1.25,4.65 ; -1.25,5.35 -1.95,5.35 -1.95,5.65 -1.25,5.65 ; 1.25,-5.65 1.95,-5.65 1.95,-5.35 1.25,-5.35 ; 1.25,-4.65 1.95,-4.65 1.95,-4.35 1.25,-4.35 ; 1.25,-3.65 1.95,-3.65 1.95,-3.35 1.25,-3.35 ; 1.25,-2.65 1.95,-2.65 1.95,-2.35 1.25,-2.35 ; 1.25,-1.65 1.95,-1.65 1.95,-1.35 1.25,-1.35 ; 1.25,-0.65 1.95,-0.65 1.95,-0.35 1.25,-0.35 ; 1.25,0.35 1.95,0.35 1.95,0.65 1.25,0.65 ; 1.25,1.35 1.95,1.35 1.95,1.65 1.25,1.65 ; 1.25,2.35 1.95,2.35 1.95,2.65 1.25,2.65 ; 1.25,3.35 1.95,3.35 1.95,3.65 1.25,3.65 ; 1.25,4.35 1.95,4.35 1.95,4.65 1.25,4.65 ; 1.25,5.35 1.95,5.35 1.95,5.65 1.25,5.65 ; -1.25,-6.25 1.25,-6.25 1.25,5.625 0.625,6.25 -1.25,6.25 -1.25,-6.25
  text "'.Designator'" at 0.84,-4.047 h1
Top Courtyard:
  lines w0.254: -2.95,-6.75 2.95,-6.75 2.95,6.75 -2.95,6.75 -2.95,-6.75
Top Designator:
  text ".Designator" at -7.618,-0.508 h1.52